# Altium schematic symbol library STM32F722RET6.SchLib: 1 symbol
Pins are listed as number, name and electrical type; pins without a type are passive.

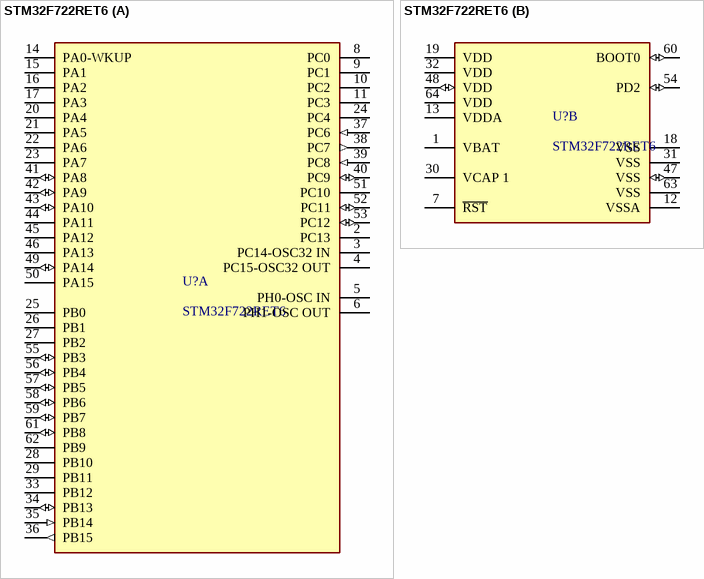
[diagram p0: symbol STM32F722RET6]

## STM32F722RET6
designator U?
footprint LQFP64-5W-IPC_A
footprint LQFP64-5W-IPC_B
footprint LQFP64-5W-IPC_C
footprint LQFP64-5W-MFG
footprint LQFP64_M
part A pins: 2 PC13, 3 PC14-OSC32 IN, 4 PC15-OSC32 OUT, 5 PH0-OSC IN, 6 PH1-OSC OUT, 8 PC0, 9 PC1, 10 PC2, 11 PC3, 14 PA0-WKUP, 15 PA1, 16 PA2, 17 PA3, 20 PA4, 21 PA5, 22 PA6, 23 PA7, 24 PC4, 25 PB0, 26 PB1, 27 PB2, 28 PB10, 29 PB11, 33 PB12 (power), 34 PB13 (io), 35 PB14 (in), 36 PB15 (out), 37 PC6 (in), 38 PC7 (out), 39 PC8 (in), 40 PC9 (io), 41 PA8 (io), 42 PA9 (io), 43 PA10 (io), 44 PA11 (power), 45 PA12 (power), 46 PA13, 49 PA14 (io), 50 PA15 (power), 51 PC10 (power), 52 PC11 (io), 53 PC12 (io), 55 PB3 (io), 56 PB4 (io), 57 PB5 (io), 58 PB6 (io), 59 PB7 (io), 61 PB8 (io), 62 PB9 (power)
part B pins: 1 VBAT, 7 ~{RST}, 12 VSSA, 13 VDDA, 18 VSS, 19 VDD, 30 VCAP 1, 31 VSS, 32 VDD, 47 VSS (io), 48 VDD (io), 54 PD2 (io), 60 BOOT0 (io), 63 VSS (power), 64 VDD (power)